# Altium footprint library WE-CNSA.PcbLib: 2 footprints
Each footprint in its own frame and in the unit in brackets; x right, y up, seen from the top. Pads: shape width x height; smd on the part's side, far side on the other; paste and mask are expansions set on the pad; w line width, h text height; cw(c..) or ccw(c..) is an arc to the next point about the centre after c.
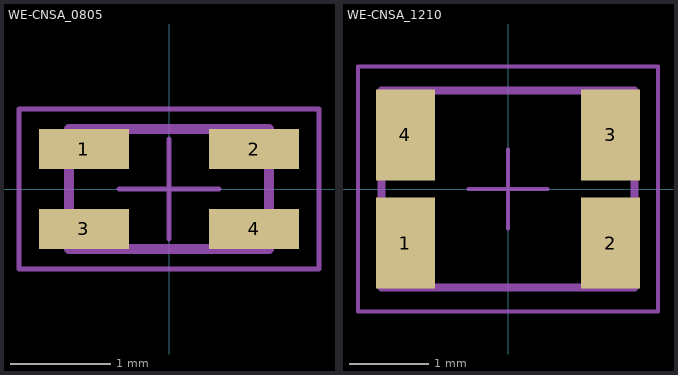
[diagram p0: the footprints below, top view; thin cyan lines are the x and y axes]

## WE-CNSA_0805 [mm] "SMD Common Mode Line Filter, size 0805, body 2.00 x 1.20 mm"
height 1.4
pads (4):
  rect 0.9x0.4 smd: 1(-0.85,0.4) 2(0.85,0.4) 3(-0.85,-0.4) 4(0.85,-0.4)
Top Designator:
  text ".Designator" at -2.499,-0.167 h0.5
Top Component Outline:
  lines w0.1: -1,-0.6 1,-0.6 1,0.6 -1,0.6 -1,-0.6
Top Courtyard:
  lines w0.05: -1.5,-0.8 1.5,-0.8 1.5,0.8 -1.5,0.8 -1.5,-0.8
Top Component Center:
  lines w0.05: -0.5,0 0.5,0 ; 0,-0.5 0,0.5
3D body "STP_WE-CNSA-0805_784231061 (rev1).stp": height 1.2, standoff 0, extent -1,-0.6 1,0.6

## WE-CNSA_1210 [mm] "SMD Common Mode Line Filter, size 1210, body 3.20 x 2.50 mm"
height 1.4
pads (4):
  rect 0.75x1.15 smd: 1(-1.3,-0.685) 2(1.3,-0.685) 3(1.3,0.685) 4(-1.3,0.685)
Top Designator:
  text ".Designator" at -3.999,-0.267 h0.8
Top Component Outline:
  lines w0.1: -1.6,-1.25 1.6,-1.25 1.6,1.25 -1.6,1.25 -1.6,-1.25
Top Courtyard:
  lines w0.05: -1.9,-1.55 1.9,-1.55 1.9,1.55 -1.9,1.55 -1.9,-1.55
Top Component Center:
  lines w0.05: -0.5,0 0.5,0 ; 0,-0.5 0,0.5
3D body "STP_WE-CNSA-1210 (rev1).stp": height 2.5, standoff 0, extent -1.6,-1.245 1.6,1.255